# Altium footprint library Transformer_Footprints.PcbLib: 1 footprints
Each footprint in its own frame and in the unit in brackets; x right, y up, seen from the top. Pads: shape width x height; smd on the part's side, far side on the other; paste and mask are expansions set on the pad; w line width, h text height; cw(c..) or ccw(c..) is an arc to the next point about the centre after c.
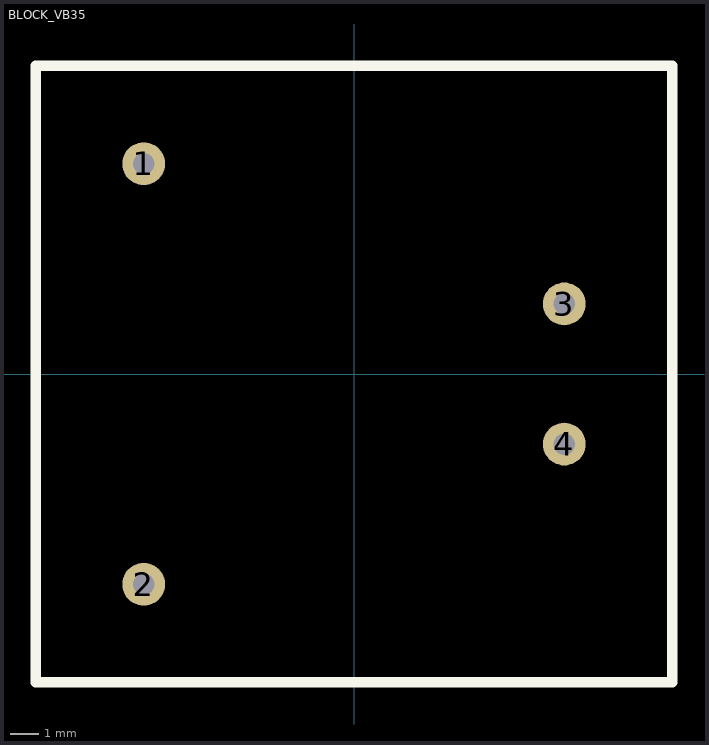
[diagram p0: the footprint, top view; thin cyan lines are the x and y axes]

## BLOCK_VB35 [mil]
pads (4):
  round 60 hole 30: 1(-295.28,295.28) 2(-295.28,-295.28) 3(295.28,98.43) 4(295.28,-98.43)
Top Overlay:
  lines w15: -446.85,-433.07 -446.85,433.07 446.85,433.07 446.85,-433.07 -446.85,-433.07